# Altium schematic symbol library IND,56nH,100mA,Wirewound,SMD.Schlib: 1 symbol
Pins are listed as number, name and electrical type; pins without a type are passive.

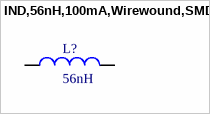
[diagram p0: symbol IND,56nH,100mA,Wirewound,SMD]

## IND,56nH,100mA,Wirewound,SMD
designator L?, comment 56nH
56 nH Unshielded Wirewound Inductor 100 mA 970mOhm Max Nonstandard
pins: 1, 2